# Altium schematic symbol library Passive-Fuse.SchLib: 1 symbol
Pins are listed as number, name and electrical type; pins without a type are passive.

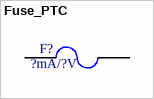
[diagram p0: symbol Fuse_PTC]

## Fuse_PTC
designator F?, comment ?mA/?V
自恢复贴片保险丝; Manufacturer_Name: *; Manufacturer_Part_Number: *; LCSC: *; Manufacturer_Name_1: *; Manufacturer_Part_Number_1: *
footprint Fuse_0603
footprint Fuse_0805
footprint Fuse_1206
footprint Fuse_1210
footprint Fuse_1812
pins: 1, 2